# Altium footprint library Basic.PcbLib: 47 footprints (part 2 of 3)
Each footprint in its own frame and in the unit in brackets; x right, y up, seen from the top. Pads: shape width x height; smd on the part's side, far side on the other; paste and mask are expansions set on the pad; w line width, h text height; cw(c..) or ccw(c..) is an arc to the next point about the centre after c.
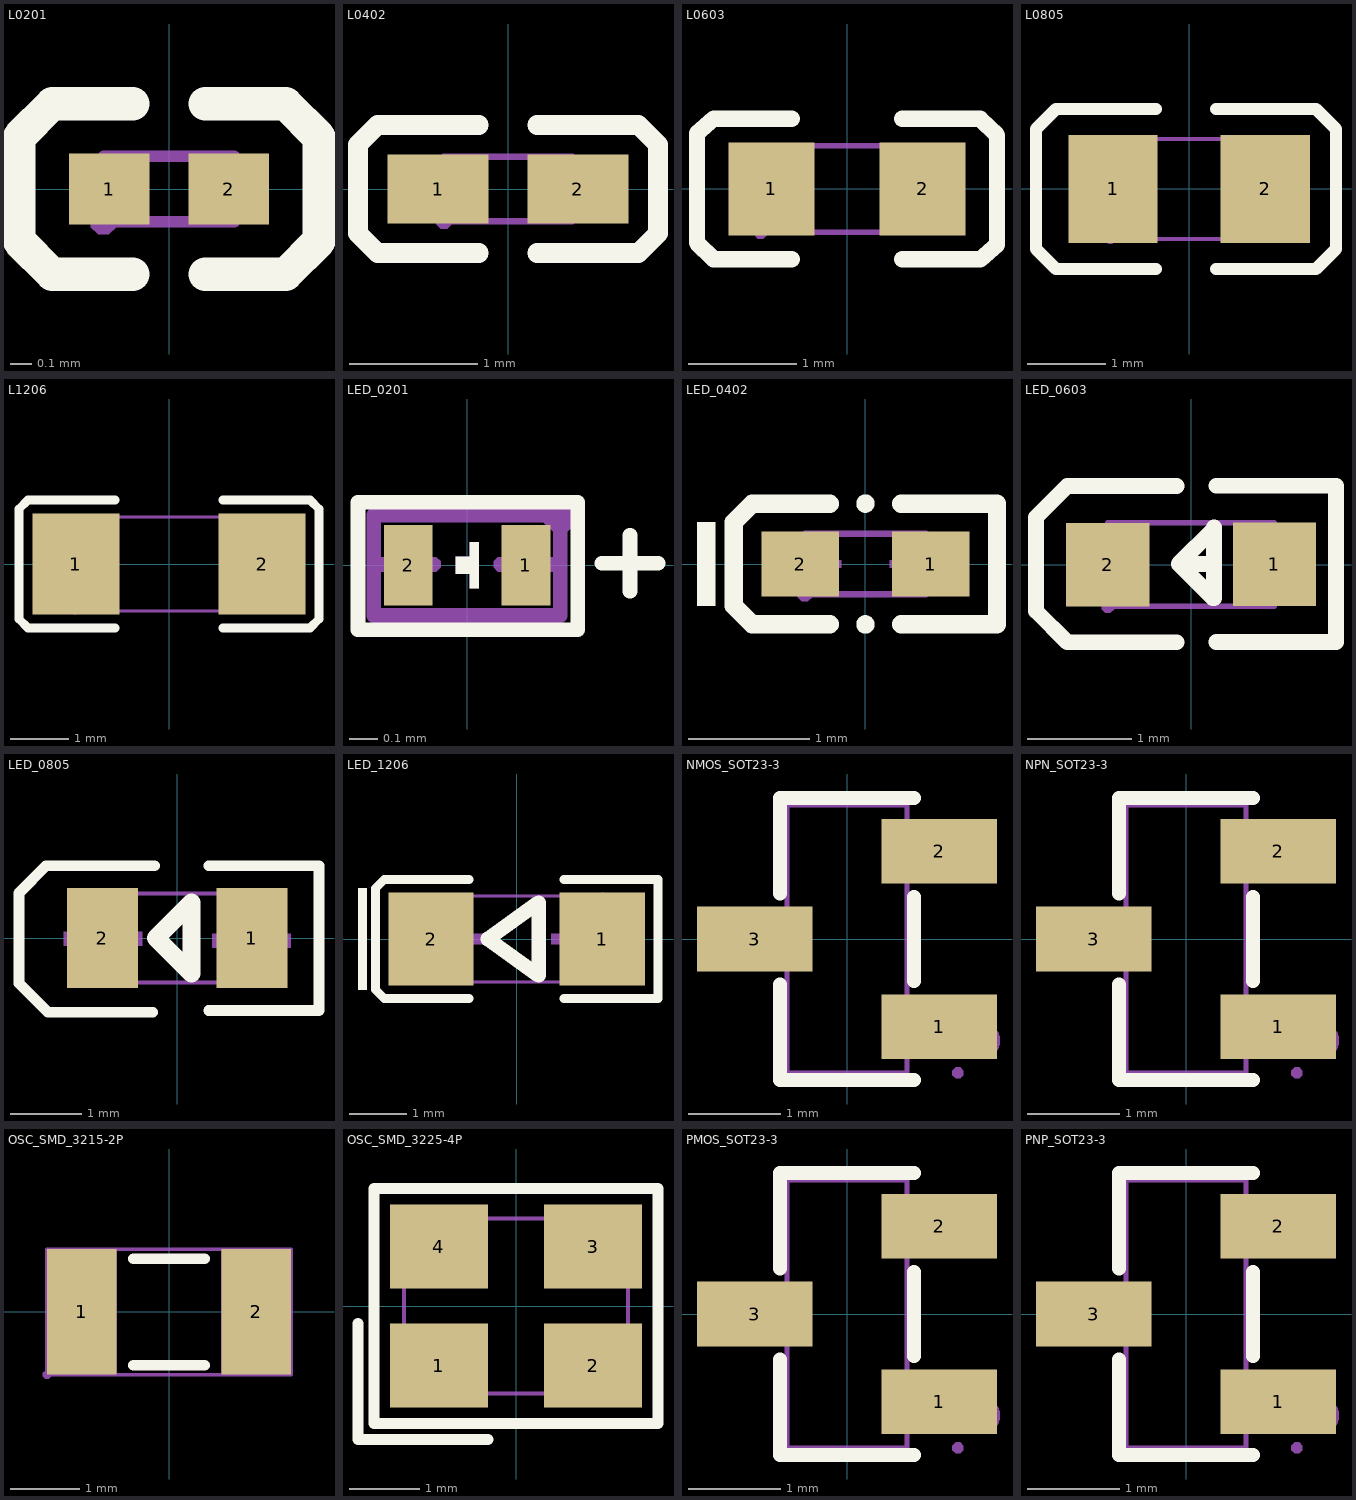
[diagram p1: the footprints below, top view; thin cyan lines are the x and y axes]

## L0201 [mm]
pads (2):
  rect 0.368x0.324 smd paste-100 mask+0.051: 1(-0.274,0) 2(0.274,0)
Top Overlay:
  lines w0.152: -0.166,-0.391 -0.535,-0.391 -0.687,-0.238 -0.687,0.238 -0.535,0.391 -0.166,0.391 ; 0.166,-0.391 0.535,-0.391 0.687,-0.238 0.687,0.238 0.535,0.391 0.166,0.391
Top Paste:
  region: 0.081,-0.138 0.081,0.138 0.105,0.162 0.434,0.162 0.458,0.138 0.458,-0.138 0.434,-0.162 0.105,-0.162
  region: -0.081,-0.138 -0.081,0.138 -0.105,0.162 -0.434,0.162 -0.458,0.138 -0.458,-0.138 -0.434,-0.162 -0.105,-0.162
Mechanical 15:
  region: -0.24,-0.15 -0.241,-0.126 -0.276,-0.092 -0.324,-0.092 -0.359,-0.126 -0.36,-0.15 -0.359,-0.174 -0.324,-0.208 -0.276,-0.208 -0.241,-0.174
  region: -0.3,-0.15 -0.3,0.15 -0.15,0.15 -0.15,-0.15
  region: 0.3,-0.15 0.3,0.15 0.15,0.15 0.15,-0.15
  lines w0.051: -0.3,-0.15 -0.3,0.15 0.3,0.15 0.3,-0.15 -0.3,-0.15
3D body "L0201.step": height 0.29, standoff -0.01, extent -0.3,-0.15 0.3,0.15

## L0402 [mm]
pads (2):
  rect 0.79x0.54 smd paste-100 mask+0.051: 1(-0.545,0) 2(0.545,0)
Top Overlay:
  lines w0.152: -0.226,-0.499 -1.016,-0.499 -1.169,-0.346 -1.169,0.346 -1.016,0.499 -0.226,0.499 ; 0.226,-0.499 1.016,-0.499 1.169,-0.346 1.169,0.346 1.016,0.499 0.226,0.499
Top Paste:
  region: 0.135,-0.086 0.135,0.086 0.404,0.27 0.9,0.27 0.94,0.23 0.94,-0.23 0.9,-0.27 0.404,-0.27
  region: -0.135,-0.086 -0.135,0.086 -0.404,0.27 -0.9,0.27 -0.94,0.23 -0.94,-0.23 -0.9,-0.27 -0.404,-0.27
Mechanical 15:
  region: -0.44,-0.25 -0.44,-0.225 -0.475,-0.19 -0.525,-0.19 -0.56,-0.225 -0.56,-0.25 -0.56,-0.275 -0.525,-0.31 -0.475,-0.31 -0.44,-0.275
  region: -0.5,-0.25 -0.5,0.25 -0.25,0.25 -0.25,-0.25
  region: 0.5,-0.25 0.5,0.25 0.25,0.25 0.25,-0.25
  lines w0.051: -0.5,-0.25 -0.5,0.25 0.5,0.25 0.5,-0.25 -0.5,-0.25
3D body "L0402.step": height 0.49, standoff -0.01, extent -0.5,-0.25 0.5,0.25

## L0603 [mm]
pads (2):
  rect 0.8x0.864 smd paste-100 mask+0.051: 1(-0.7,0) 2(0.7,0)
Top Overlay:
  lines w0.152: -0.51,-0.65 -1.237,-0.65 -1.39,-0.499 -1.39,0.517 -1.236,0.65 -0.51,0.65 ; 0.51,-0.65 1.236,-0.65 1.39,-0.517 1.39,0.499 1.236,0.65 0.51,0.65
Top Paste:
  region: 0.264,0.154 0.264,-0.122 0.538,-0.416 1.042,-0.416 1.106,-0.352 1.106,0.384 1.042,0.448 0.538,0.448
  region: -0.252,0.143 -0.252,-0.134 -0.526,-0.427 -1.029,-0.427 -1.093,-0.363 -1.093,0.373 -1.029,0.437 -0.526,0.437
Mechanical 15:
  region: -0.5,-0.4 -0.8,-0.4 -0.8,0.4 -0.5,0.4
  region: 0.8,-0.4 0.5,-0.4 0.5,0.4 0.8,0.4
  region: -0.74,-0.4 -0.74,-0.375 -0.775,-0.34 -0.825,-0.34 -0.86,-0.375 -0.86,-0.4 -0.86,-0.425 -0.825,-0.46 -0.775,-0.46 -0.74,-0.425
  lines w0.051: -0.8,-0.4 -0.8,0.4 0.8,0.4 0.8,-0.4 -0.8,-0.4
3D body "L0603.step": height 0.48, standoff -0.02, extent -0.8,-0.4 0.8,0.4

## L0805 [mm]
pads (2):
  rect 1.133x1.377 smd paste-100 mask+0.051: 1(-0.966,0) 2(0.966,0)
Top Overlay:
  lines w0.152: -0.421,-1.016 -1.691,-1.016 -1.945,-0.762 -1.945,-0.635 -1.945,0.762 -1.691,1.016 -1.564,1.016 -0.421,1.016 ; 0.341,-1.016 1.484,-1.016 1.611,-1.016 1.865,-0.762 1.865,0.635 1.865,0.762 1.611,1.016 0.341,1.016
Top Paste:
  region: -0.36,-0.22 -0.36,0.22 -0.745,0.689 -1.433,0.689 -1.533,0.589 -1.533,-0.588 -1.433,-0.688 -0.745,-0.688
  region: 0.36,-0.22 0.36,0.22 0.745,0.689 1.433,0.689 1.533,0.589 1.533,-0.588 1.433,-0.688 0.745,-0.688
Mechanical 15:
  region: -0.94,-0.637 -0.94,-0.613 -0.975,-0.577 -1.025,-0.577 -1.06,-0.612 -1.06,-0.637 -1.06,-0.662 -1.025,-0.697 -0.975,-0.697 -0.94,-0.662
  region: 1,-0.637 1,0.638 0.6,0.638 0.6,-0.637
  region: -1,-0.637 -1,0.638 -0.6,0.638 -0.6,-0.637
  lines w0.051: -1,-0.637 -1,0.638 1,0.638 1,-0.637 -1,-0.637
3D body "L0805.step": height 0.61, standoff 0, extent -1,-0.65 1,0.651

## L1206 [mm]
pads (2):
  rect 1.485x1.728 smd paste-100 mask+0.051: 1(-1.593,0) 2(1.593,0)
Top Overlay:
  lines w0.152: -0.926,-1.093 -2.411,-1.093 -2.564,-0.94 -2.564,0.94 -2.411,1.093 -0.926,1.093 ; 0.926,-1.093 2.411,-1.093 2.564,-0.94 2.564,0.94 2.411,1.093 0.926,1.093
Top Paste:
  region: 0.85,-0.764 0.85,-0.394 0.95,-0.294 1.255,-0.294 1.355,-0.194 1.355,0.194 1.255,0.294 0.95,0.294 0.85,0.394 0.85,0.764 0.95,0.864 2.235,0.864 2.335,0.764 2.335,-0.764 2.235,-0.864 0.95,-0.864
  region: -0.85,-0.764 -0.85,-0.394 -0.95,-0.294 -1.255,-0.294 -1.355,-0.194 -1.355,0.194 -1.255,0.294 -0.95,0.294 -0.85,0.394 -0.85,0.764 -0.95,0.864 -2.235,0.864 -2.335,0.764 -2.335,-0.764 -2.235,-0.864 -0.95,-0.864
Mechanical 15:
  region: -1.54,-0.8 -1.541,-0.776 -1.576,-0.742 -1.624,-0.742 -1.659,-0.776 -1.66,-0.8 -1.659,-0.824 -1.624,-0.858 -1.576,-0.858 -1.541,-0.824
  region: -1.6,-0.8 -1.6,0.8 -1.1,0.8 -1.1,-0.8
  region: 1.6,-0.8 1.6,0.8 1.1,0.8 1.1,-0.8
  lines w0.051: -1.6,-0.8 -1.6,0.8 1.6,0.8 1.6,-0.8 -1.6,-0.8
3D body "L1206.step": height 1.08, standoff -0.02, extent -1.6,-0.798 1.6,0.798

## LED_0201 [mm] "贴片LED_0201"
pads (2):
  rect 0.17x0.28 smd paste+0 mask+0.05: 1(0.205,0) 2(-0.205,0)
Top Overlay:
  region: 0.04,0 0.04,-0.08 0.01,-0.08 0.01,-0.03 -0.04,-0.03 -0.04,0.03 0.01,0.03 0.01,0.08 0.04,0.08
  lines w0.051: 0.47,0.007 0.665,0.007 ; 0.567,-0.091 0.567,0.104 ; -0.38,-0.225 0.385,-0.225 0.385,0.22 -0.38,0.22 -0.38,-0.225
Mechanical 6:
  region: -0.293,0.029 -0.118,0.029 -0.107,0.029 -0.092,0.014 -0.092,-0.007 -0.107,-0.022 -0.118,-0.022 -0.293,-0.022 -0.303,-0.022 -0.318,-0.007 -0.318,0.014 -0.303,0.029
  region: 0.117,0.029 0.293,0.029 0.303,0.029 0.318,0.014 0.318,-0.007 0.303,-0.022 0.293,-0.022 0.117,-0.022 0.107,-0.022 0.092,-0.007 0.092,0.014 0.107,0.029
  region: 0.18,-0.088 0.18,0.087 0.18,0.098 0.194,0.112 0.216,0.112 0.23,0.098 0.23,0.087 0.23,-0.088 0.23,-0.099 0.216,-0.113 0.194,-0.113 0.18,-0.099
  region: 0.04,0 0.04,-0.08 0.01,-0.08 0.01,-0.03 -0.04,-0.03 -0.04,0.03 0.01,0.03 0.01,0.08 0.04,0.08
Mechanical 15:
  region: 0.385,0.175 0.385,0.199 0.35,0.234 0.301,0.234 0.266,0.199 0.265,0.175 0.266,0.151 0.301,0.116 0.35,0.116 0.385,0.151
  region: 0.285,0.135 0.285,-0.135 0.125,-0.135 0.125,0.135
  region: -0.285,-0.135 -0.285,0.135 -0.125,0.135 -0.125,-0.135
  lines w0.051: -0.325,-0.175 -0.325,0.175 0.325,0.175 0.325,-0.175 -0.325,-0.175
3D body "LED_0201.step": height 0.21, standoff 0.01, extent -0.325,-0.176 0.325,0.175

## LED_0402 [mm] "贴片LED_0402"
pads (2):
  rect 0.636x0.54 smd paste-100 mask+0.051: 1(0.538,0) 2(-0.538,0)
Top Overlay:
  circle w0.076: c0,0.499 r0.038
  circle w0.076: c0,-0.499 r0.038
  region: -1.237,-0.346 -1.237,0.346 -1.39,0.346 -1.39,-0.346
  lines w0.152: -0.296,-0.499 -0.933,-0.499 -1.085,-0.346 -1.085,0.346 -0.933,0.499 -0.296,0.499 ; 0.296,-0.499 1.085,-0.499 1.085,0.499 0.296,0.499
Top Paste:
  region: -0.198,-0.23 -0.198,0.23 -0.238,0.27 -0.816,0.27 -0.856,0.23 -0.856,-0.23 -0.816,-0.27 -0.238,-0.27
  region: 0.198,-0.23 0.198,0.23 0.238,0.27 0.816,0.27 0.856,0.23 0.856,-0.23 0.816,-0.27 0.238,-0.27
Mechanical 6:
  region: 0.35,-0.2 0.35,0.2 0.29,0.2 0.29,-0.2
  region: 0.44,-0.03 0.44,0.03 0.2,0.03 0.2,-0.03
  region: -0.44,-0.03 -0.44,0.03 -0.2,0.03 -0.2,-0.03
Mechanical 15:
  region: 0.5,-0.25 0.5,0.25 0.3,0.25 0.3,-0.25
  region: -0.5,-0.25 -0.5,0.25 -0.3,0.25 -0.3,-0.25
  region: -0.44,-0.25 -0.44,-0.225 -0.475,-0.191 -0.524,-0.191 -0.559,-0.225 -0.56,-0.25 -0.559,-0.274 -0.524,-0.309 -0.475,-0.309 -0.44,-0.274
  lines w0.051: -0.5,-0.25 0.5,-0.25 0.5,0.25 -0.5,0.25 -0.5,-0.25
3D body "LED_0402.step": height 0.2, standoff -0.01, extent -0.51,-0.25 0.51,0.26

## LED_0603 [mm] "贴片LED_0603"
pads (2):
  rect 0.8x0.8 smd: 1(0.8,0.003) 2(-0.8,-0.003)
Top Overlay:
  lines w0.152: -0.14,-0.746 -1.19,-0.746 -1.49,-0.446 -1.49,-0.346 -1.49,0.354 -1.49,0.454 -1.19,0.754 -0.14,0.754 ; 0.22,0.007 -0.12,0.007 ; 0.24,-0.744 1.39,-0.744 ; 0.24,0.757 1.39,0.757 1.39,-0.723 ; -0.12,0.007 0.22,0.347 0.22,0.357 0.22,-0.323 0.21,-0.323 -0.12,0.007
Mechanical 6:
  region: -1.07,0.062 -0.53,0.062 -0.53,-0.068 -1.07,-0.068
  region: 0.735,-0.267 0.735,0.273 0.865,0.273 0.865,-0.267
  region: 0.529,0.068 1.069,0.068 1.069,-0.062 0.529,-0.062
Mechanical 15:
  region: -0.8,-0.403 -0.8,0.397 -0.5,0.397 -0.5,-0.403
  region: 0.5,-0.396 0.5,0.404 0.8,0.404 0.8,-0.396
  region: -0.74,-0.403 -0.741,-0.379 -0.775,-0.346 -0.824,-0.346 -0.858,-0.379 -0.859,-0.403 -0.858,-0.428 -0.824,-0.461 -0.775,-0.461 -0.741,-0.428
  lines w0.051: -0.8,-0.4 0.8,-0.4 0.8,0.4 -0.8,0.4 -0.8,-0.4
3D body "LED_0603.step": height 0.6, standoff -0.01, extent -0.81,-0.4 0.81,0.41

## LED_0805 [mm] "贴片LED_0805"
pads (2):
  rect 1x1.4 smd: 1(1.05,0) 2(-1.05,0)
Top Overlay:
  lines w0.152: -0.344,-1.043 -1.817,-1.043 -2.224,-0.636 -2.224,0.634 -1.843,1.015 -0.319,1.015 ; 0.443,-1.017 1.993,-1.017 1.993,1.015 0.443,1.015
  lines w0.254: -0.3,0 -0.2,-0.1 0.2,-0.5 0.2,0.5 -0.2,0.1 -0.3,0
Mechanical 6:
  region: -0.494,-0.109 -1.594,-0.109 -1.594,0.091 -0.494,0.091
  region: 0.494,0.06 1.594,0.06 1.594,-0.14 0.494,-0.14
  region: 0.941,-0.556 0.941,0.544 1.141,0.544 1.141,-0.556
Mechanical 15:
  region: -0.6,-0.625 -1,-0.625 -1,0.625 -0.6,0.625
  region: 1,-0.625 0.6,-0.625 0.6,0.625 1,0.625
  region: 1.06,0.625 1.059,0.65 1.024,0.684 0.976,0.684 0.941,0.65 0.94,0.625 0.941,0.601 0.976,0.566 1.024,0.566 1.059,0.601
  lines w0.051: -1,-0.625 1,-0.625 1,0.625 -1,0.625 -1,-0.625
3D body "LED_0805.step": height 0.8, standoff -0.01, extent -1.01,-0.625 1.01,0.635

## LED_1206 [mm] "贴片LED_1206"
pads (2):
  rect 1.485x1.62 smd paste-100 mask+0.051: 1(1.493,0) 2(-1.492,0)
Top Overlay:
  region: -2.616,-0.886 -2.616,0.886 -2.768,0.886 -2.768,-0.886
  lines w0.152: -0.826,-1.039 -2.311,-1.039 -2.464,-0.886 -2.464,0.886 -2.311,1.039 -0.826,1.039 ; 0.826,-1.039 2.464,-1.039 2.464,1.039 0.826,1.039
  lines w0.254: 0.381,-0.635 -0.508,0 0.381,0.635 ; 0.381,-0.635 0.381,0.635 ; 0.381,-0.635 0.381,0.635
Top Paste:
  region: -0.75,-0.71 -0.75,-0.375 -0.85,-0.275 -1.155,-0.275 -1.255,-0.175 -1.255,0.175 -1.155,0.275 -0.85,0.275 -0.75,0.375 -0.75,0.71 -0.85,0.81 -2.135,0.81 -2.235,0.71 -2.235,-0.71 -2.135,-0.81 -0.85,-0.81
  region: 0.75,-0.71 0.75,-0.375 0.85,-0.275 1.155,-0.275 1.255,-0.175 1.255,0.175 1.155,0.275 0.85,0.275 0.75,0.375 0.75,0.71 0.85,0.81 2.135,0.81 2.235,0.71 2.235,-0.71 2.135,-0.81 0.85,-0.81
Mechanical 6:
  region: 1.05,-0.6 1.05,0.6 0.87,0.6 0.87,-0.6
  region: 1.32,-0.09 1.32,0.09 0.6,0.09 0.6,-0.09
  region: -1.32,-0.09 -1.32,0.09 -0.6,0.09 -0.6,-0.09
Mechanical 15:
  region: 1.5,-0.75 1.5,0.75 1,0.75 1,-0.75
  region: -1.5,-0.75 -1.5,0.75 -1,0.75 -1,-0.75
  region: 1.56,0.75 1.56,0.775 1.525,0.81 1.475,0.81 1.44,0.775 1.44,0.75 1.44,0.725 1.475,0.69 1.525,0.69 1.56,0.725
  lines w0.051: -1.5,-0.75 1.5,-0.75 1.5,0.75 -1.5,0.75 -1.5,-0.75
3D body "LED_1206.step": height 1, standoff 0, extent -1.501,-0.75 1.501,0.76

## NMOS_SOT23-3 [mm] "NMOS管_SOT-23-3"
pads (3):
  rect 1.25x0.7 smd: 1(1,-0.95) 2(1,0.95) 3(-1,0)
Top Overlay:
  lines w0.152: -0.726,-0.495 -0.726,-1.526 0.726,-1.526 ; -0.726,0.495 -0.726,1.526 0.726,1.526 ; 0.726,-0.455 0.726,0.455
Mechanical 6:
  circle w0.2: c1.46,-1.1 r0.1
Mechanical 15:
  region: -1.2,-0.215 -1.2,0.215 -0.9,0.215 -0.9,-0.215
  region: -0.91,-0.215 -0.91,0.215 -0.64,0.215 -0.64,-0.215
  region: 0.9,-1.165 0.9,-0.735 1.2,-0.735 1.2,-1.165
  region: 0.64,-1.165 0.64,-0.735 0.91,-0.735 0.91,-1.165
  region: 0.9,0.735 0.9,1.165 1.2,1.165 1.2,0.735
  region: 0.64,0.735 0.64,1.165 0.91,1.165 0.91,0.735
  region: 1.26,-1.45 1.259,-1.426 1.224,-1.392 1.176,-1.392 1.141,-1.426 1.14,-1.45 1.141,-1.474 1.176,-1.508 1.224,-1.508 1.259,-1.474
  lines w0.051: -0.65,-1.45 0.65,-1.45 0.65,1.45 -0.65,1.45 -0.65,-1.45
3D body "NMOS_SOT-23-3.step": height 1.1, standoff 0.05, extent -1.253,-1.45 1.253,1.45

## NPN_SOT23-3 [mm] "贴片NPN三极管_SOT-23-3"
pads (3):
  rect 1.25x0.7 smd: 1(1,-0.95) 2(1,0.95) 3(-1,0)
Top Overlay:
  lines w0.152: -0.726,-0.495 -0.726,-1.526 0.726,-1.526 ; -0.726,0.495 -0.726,1.526 0.726,1.526 ; 0.726,-0.455 0.726,0.455
Mechanical 6:
  circle w0.2: c1.46,-1.1 r0.1
Mechanical 15:
  region: 1.26,-1.45 1.259,-1.426 1.224,-1.392 1.176,-1.392 1.141,-1.426 1.14,-1.45 1.141,-1.474 1.176,-1.508 1.224,-1.508 1.259,-1.474
  region: 0.64,0.735 0.64,1.165 0.91,1.165 0.91,0.735
  region: 0.9,0.735 0.9,1.165 1.2,1.165 1.2,0.735
  region: 0.64,-1.165 0.64,-0.735 0.91,-0.735 0.91,-1.165
  region: 0.9,-1.165 0.9,-0.735 1.2,-0.735 1.2,-1.165
  region: -0.91,-0.215 -0.91,0.215 -0.64,0.215 -0.64,-0.215
  region: -1.2,-0.215 -1.2,0.215 -0.9,0.215 -0.9,-0.215
  lines w0.051: -0.65,-1.45 -0.65,1.45 0.65,1.45 0.65,-1.45 -0.65,-1.45
3D body "NPN_SOT-23-3.step": height 1.1, standoff 0.05, extent -1.253,-1.45 1.253,1.45

## OSC_SMD_3215-2P [mm]
pads (2):
  rect 1x1.8 smd: 1(-1.25,0) 2(1.25,0)
Top Overlay:
  lines w0.152: -0.508,-0.762 0.508,-0.762 ; -0.508,0.762 0.508,0.762
Mechanical 15:
  region: -1.69,-0.9 -1.69,-0.875 -1.725,-0.84 -1.775,-0.84 -1.81,-0.875 -1.81,-0.9 -1.81,-0.925 -1.775,-0.96 -1.725,-0.96 -1.69,-0.925
  region: -1.75,-0.9 -1.75,0.9 -0.75,0.9 -0.75,-0.9
  region: 0.75,-0.9 0.75,0.9 1.75,0.9 1.75,-0.9
  lines w0.051: -1.75,-0.9 1.75,-0.9 1.75,0.9 -1.75,0.9 -1.75,-0.9
3D body "OSC_SMD-3215-2P.step": height 0.8, standoff 0, extent -1.6,-0.75 1.6,0.75

## OSC_SMD_3225-4P [mm]
pads (4):
  rect 1.4x1.2 smd: 1(-1.1,-0.85) 2(1.1,-0.85) 3(1.1,0.85) 4(-1.1,0.85)
Top Overlay:
  lines w0.152: -2.257,-0.25 -2.257,-1.907 -0.4,-1.907 ; -2.029,-1.678 -2.029,1.679 2.029,1.679 2.029,-1.678 -2.029,-1.678
Mechanical 6:
  circle w0.254: c-1.27,-0.889 r0.127
Mechanical 15:
  region: -1.54,-1.25 -1.54,-1.225 -1.575,-1.19 -1.625,-1.19 -1.66,-1.225 -1.66,-1.25 -1.66,-1.275 -1.625,-1.31 -1.575,-1.31 -1.54,-1.275
  region: -1.5,1.15 -0.6,1.15 -0.6,0.35 -1.5,0.35
  region: 0.6,1.15 1.5,1.15 1.5,0.35 0.6,0.35
  region: 0.6,-0.35 1.5,-0.35 1.5,-1.15 0.6,-1.15
  region: -1.5,-0.35 -0.6,-0.35 -0.6,-1.15 -1.5,-1.15
  lines w0.051: -1.6,-1.25 -1.6,1.25 1.6,1.25 1.6,-1.25 -1.6,-1.25
3D body "OSC_SMD-3225-4P.step": height 0.8, standoff -0.01, extent -1.6,-1.25 1.6,1.25

## PMOS_SOT23-3 [mm] "PMOS管_SOT-23-3"
pads (3):
  rect 1.25x0.7 smd: 1(1,-0.95) 2(1,0.95) 3(-1,0)
Top Overlay:
  lines w0.152: -0.726,-0.495 -0.726,-1.526 0.726,-1.526 ; -0.726,0.495 -0.726,1.526 0.726,1.526 ; 0.726,-0.455 0.726,0.455
Mechanical 6:
  circle w0.2: c1.46,-1.1 r0.1
Mechanical 15:
  region: 1.26,-1.45 1.259,-1.426 1.224,-1.392 1.176,-1.392 1.141,-1.426 1.14,-1.45 1.141,-1.474 1.176,-1.508 1.224,-1.508 1.259,-1.474
  region: 0.64,0.735 0.64,1.165 0.91,1.165 0.91,0.735
  region: 0.9,0.735 0.9,1.165 1.2,1.165 1.2,0.735
  region: 0.64,-1.165 0.64,-0.735 0.91,-0.735 0.91,-1.165
  region: 0.9,-1.165 0.9,-0.735 1.2,-0.735 1.2,-1.165
  region: -0.91,-0.215 -0.91,0.215 -0.64,0.215 -0.64,-0.215
  region: -1.2,-0.215 -1.2,0.215 -0.9,0.215 -0.9,-0.215
  lines w0.051: -0.65,-1.45 -0.65,1.45 0.65,1.45 0.65,-1.45 -0.65,-1.45
3D body "PMOS_SOT-23-3.step": height 1.1, standoff 0.05, extent -1.253,-1.45 1.253,1.45

## PNP_SOT23-3 [mm] "PNP三极管_SOT-23-3"
pads (3):
  rect 1.25x0.7 smd: 1(1,-0.95) 2(1,0.95) 3(-1,0)
Top Overlay:
  lines w0.152: -0.726,-0.495 -0.726,-1.526 0.726,-1.526 ; -0.726,0.495 -0.726,1.526 0.726,1.526 ; 0.726,-0.455 0.726,0.455
Mechanical 6:
  circle w0.2: c1.46,-1.1 r0.1
Mechanical 15:
  region: 1.26,-1.45 1.259,-1.426 1.224,-1.392 1.176,-1.392 1.141,-1.426 1.14,-1.45 1.141,-1.474 1.176,-1.508 1.224,-1.508 1.259,-1.474
  region: 0.64,0.735 0.64,1.165 0.91,1.165 0.91,0.735
  region: 0.9,0.735 0.9,1.165 1.2,1.165 1.2,0.735
  region: 0.64,-1.165 0.64,-0.735 0.91,-0.735 0.91,-1.165
  region: 0.9,-1.165 0.9,-0.735 1.2,-0.735 1.2,-1.165
  region: -0.91,-0.215 -0.91,0.215 -0.64,0.215 -0.64,-0.215
  region: -1.2,-0.215 -1.2,0.215 -0.9,0.215 -0.9,-0.215
  lines w0.051: -0.65,-1.45 -0.65,1.45 0.65,1.45 0.65,-1.45 -0.65,-1.45
3D body "PNP_SOT-23-3.step": height 1.1, standoff 0.05, extent -1.253,-1.45 1.253,1.45